# Altium integrated library RFM95W-868S2.IntLib: 1 symbol
Pins are listed as number, name and electrical type; pins without a type are passive.

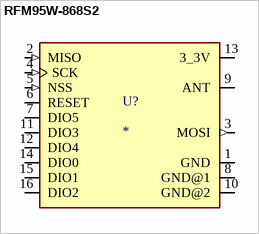
[diagram p0: symbol RFM95W-868S2]

## RFM95W-868S2
designator U?
General ISM < 1GHz LoRaâ„¢ Transceiver Module 868MHz Antenna Not Included Surface Mount; MP: RFM95W-868S2; MF: RF; Purchase-URL: https://pricing.snapeda.com/search/part/RFM95W-868S2/?ref=eda; Package: Non Standard RF Solutions; Price: None; Availability: In Stock; SnapEDA_Link: https://www.snapeda.com/parts/RFM95W-868S2/RF+Solutions/view-part/?ref=snap; Check_prices: https://www.snapeda.com/parts/RFM95W-868S2/RF+Solutions/view-part/?ref=eda; Value: *
footprint XCVR_RFM95W-868S2
pins: 1 GND (power), 2 MISO (in), 3 MOSI (out), 4 SCK (in), 5 NSS (in), 6 RESET (io), 7 DIO5 (io), 8 GND@1 (power), 9 ANT, 10 GND@2 (power), 11 DIO3 (io), 12 DIO4 (io), 13 3_3V (power), 14 DIO0 (io), 15 DIO1 (io), 16 DIO2 (io)